# Altium footprint library CommonFPs.PcbLib: 38 footprints (part 3 of 3)
Each footprint in its own frame and in the unit in brackets; x right, y up, seen from the top. Pads: shape width x height; smd on the part's side, far side on the other; paste and mask are expansions set on the pad; w line width, h text height; cw(c..) or ccw(c..) is an arc to the next point about the centre after c.
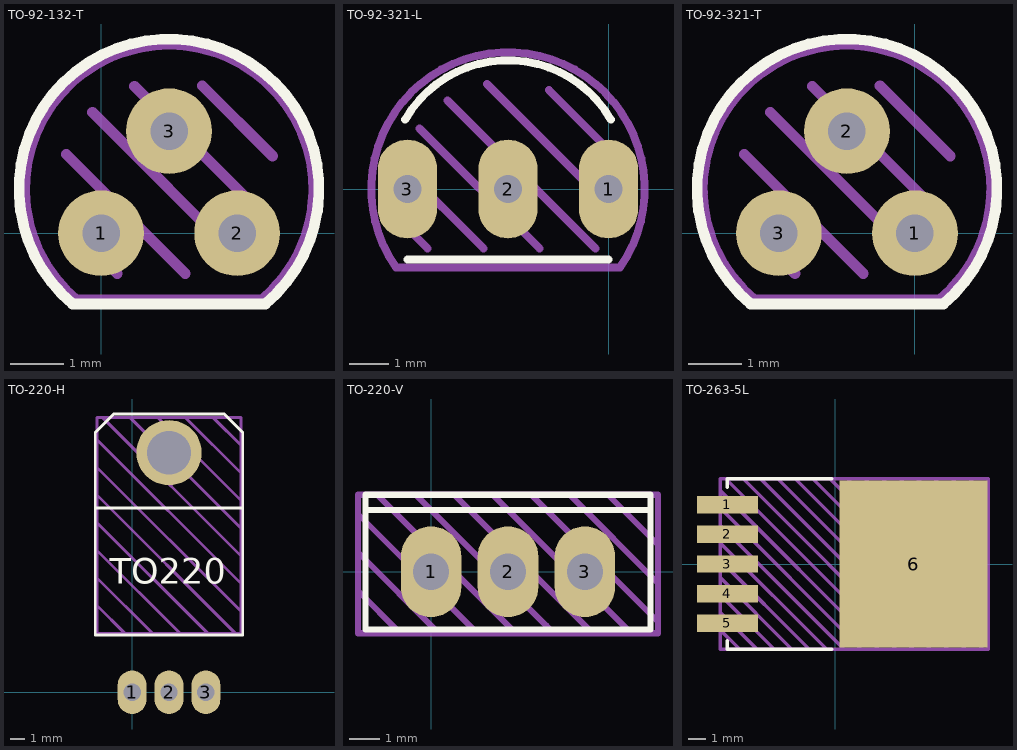
[diagram p2: the footprints below, top view; thin cyan lines are the x and y axes]

## TO-92-132-T [mm]
pads (3):
  round 1.6 hole 0.7: 1(0,0) 2(2.54,0) 3(1.27,1.905)
Top Overlay:
  lines w0.2: -0.531,-1.319 cw(c1.269,0.826) 3.068,-1.319 -0.531,-1.319
Top Draw:
  lines w0.2: -0.657,0.209 0.301,-0.75 ; -0.648,1.472 1.574,-0.75 ; -0.161,2.257 2.703,-0.606 ; 0.625,2.745 3.19,0.179 ; 1.888,2.754 3.2,1.442 ; -0.464,-1.243 cw(c1.271,0.826) 3.007,-1.243 -0.464,-1.243
Top Info:
  text "'.Comment'" at -1.905,-2.54 h0.75
3D body: height 2.16, standoff -0.13, extent -0.3,-0.27 0.3,1.246
3D body: height 2.3, standoff 1.7, extent 2.239,0.666 2.839,1.266
3D body: height 2.3, standoff 1.7, extent -0.299,0.665 0.301,1.265
3D body: height 3, standoff 2, extent 0.97,0.665 1.57,1.265
3D body: height 3, standoff 2, extent 2.239,0.666 2.839,1.266
3D body: height 3, standoff 2, extent -0.299,0.665 0.301,1.265
3D body: height 0, standoff -1.78, extent 0.969,1.605 1.569,2.205
3D body: height 0.3, standoff -0.3, extent 0.969,1.605 1.569,2.205
3D body: height 2.3, standoff 1.7, extent 0.97,0.665 1.57,1.265
3D body: height 0.3, standoff -0.3, extent 2.24,-0.3 2.84,0.3
3D body: height 0, standoff -1.78, extent 2.24,-0.3 2.84,0.3
3D body: height 0.3, standoff -0.3, extent -0.3,-0.3 0.3,0.3
3D body: height 0, standoff -1.78, extent -0.3,-0.3 0.3,0.3
3D body: height 2.16, standoff -0.13, extent 2.24,-0.27 2.84,1.246
3D body: height 2.17, standoff -0.13, extent 0.969,0.682 1.569,2.177
3D body: height 7, standoff 3, extent -1.25,-0.787 1.271,3.632
3D body: height 7, standoff 3, extent 1.268,-0.787 3.79,3.632

## TO-92-321-L [mm]
pads (3):
  oval 1.5x2.5 hole 0.7: 1(0,0) 2(-2.54,0) 3(-5.08,0)
Top Overlay:
  lines w0.2: -5.138,1.754 cw(c-2.54,0.254) 0.058,1.754 ; -5.08,-1.778 0,-1.778
Top Draw:
  lines w0.2: -5.192,0.531 -3.161,-1.5 ; -5.038,-1.038 -4.576,-1.5 ; -4.773,1.526 -1.747,-1.5 ; -4.066,2.233 -0.331,-1.501 ; -3.071,2.652 0.112,-0.531 ; -1.502,2.498 -0.042,1.038 ; -5.37,-1.982 cw(c-2.54,0) 0.29,-1.982 -5.37,-1.982
Top Info:
  text "'.Comment'" at -5.715,-3.175 h0.75
3D body: height 7, standoff 3, extent -2.54,-1.422 -0.019,2.997
3D body: height 7, standoff 3, extent -5.058,-1.422 -2.537,2.997
3D body: height 2.18, standoff -0.16, extent -1.525,-0.3 0.285,0.3
3D body: height 2.3, standoff 1.7, extent -4.109,-0.3 -3.509,0.3
3D body: height 2.3, standoff 1.7, extent -1.57,-0.3 -0.97,0.3
3D body: height 0, standoff -1.78, extent -5.379,-0.3 -4.779,0.3
3D body: height 0, standoff -1.78, extent -0.299,-0.3 0.301,0.3
3D body: height 5.22, standoff -1.78, extent -2.839,-0.3 -2.239,0.3
3D body: height 0.3, standoff -0.3, extent -5.379,-0.3 -4.779,0.3
3D body: height 0.3, standoff -0.3, extent -0.299,-0.3 0.301,0.3
3D body: height 3, standoff 2, extent -4.109,-0.3 -3.509,0.3
3D body: height 3, standoff 2, extent -1.57,-0.3 -0.97,0.3
3D body: height 2.18, standoff -0.16, extent -5.365,-0.3 -3.555,0.3

## TO-92-321-T [mm]
pads (3):
  round 1.6 hole 0.7: 1(0,0) 2(-1.27,1.905) 3(-2.54,0)
Top Overlay:
  lines w0.2: -3.068,-1.319 cw(c-1.269,0.826) 0.531,-1.319 -3.068,-1.319
Top Draw:
  lines w0.2: -3.197,0.209 -2.239,-0.75 ; -3.188,1.472 -0.966,-0.75 ; -2.701,2.257 0.163,-0.606 ; -1.915,2.745 0.65,0.179 ; -0.652,2.754 0.66,1.442 ; -3.004,-1.243 cw(c-1.269,0.826) 0.467,-1.243 -3.004,-1.243
Top Info:
  text "'.Comment'" at -4.445,-2.54 h0.75
3D body: height 2.16, standoff -0.13, extent -0.3,-0.27 0.3,1.246
3D body: height 2.3, standoff 1.7, extent -2.839,0.666 -2.239,1.266
3D body: height 2.3, standoff 1.7, extent -0.301,0.665 0.299,1.265
3D body: height 3, standoff 2, extent -1.57,0.665 -0.97,1.265
3D body: height 3, standoff 2, extent -2.839,0.666 -2.239,1.266
3D body: height 3, standoff 2, extent -0.301,0.665 0.299,1.265
3D body: height 0, standoff -1.78, extent -1.569,1.605 -0.969,2.205
3D body: height 0.3, standoff -0.3, extent -1.569,1.605 -0.969,2.205
3D body: height 2.3, standoff 1.7, extent -1.57,0.665 -0.97,1.265
3D body: height 0.3, standoff -0.3, extent -2.84,-0.3 -2.24,0.3
3D body: height 0, standoff -1.78, extent -2.84,-0.3 -2.24,0.3
3D body: height 0.3, standoff -0.3, extent -0.3,-0.3 0.3,0.3
3D body: height 0, standoff -1.78, extent -0.3,-0.3 0.3,0.3
3D body: height 2.16, standoff -0.13, extent -2.84,-0.27 -2.24,1.246
3D body: height 2.17, standoff -0.13, extent -1.569,0.682 -0.969,2.177
3D body: height 7, standoff 3, extent -1.271,-0.787 1.25,3.632
3D body: height 7, standoff 3, extent -3.79,-0.787 -1.268,3.632

## TO-220-H [mm]
pads (4):
  oval 2x3 hole 1.2: 1(0,0) 2(2.54,0) 3(5.08,0)
  round 4.5 hole 3: ""(2.54,16.51)
Top Overlay:
  lines w0.2: -2.54,12.7 7.6,12.7 ; -2.54,3.937 7.62,3.937 7.62,17.907 6.35,19.177 -1.27,19.177 -2.54,17.907 -2.54,3.937
  text "TO220" at -1.555,7.462 h1.75
Top Draw:
  lines w0.2: -2.413,5.969 -0.508,4.064 ; -2.413,7.874 1.397,4.064 ; -2.413,9.779 3.302,4.064 ; -2.413,11.684 5.207,4.064 ; -2.413,13.589 7.112,4.064 ; -2.413,15.494 7.493,5.588 ; -2.413,17.399 7.429,7.556 ; -2.032,18.923 7.493,9.398 ; -0.127,18.923 7.461,11.335 ; 1.778,18.923 7.493,13.208 ; 3.683,18.923 7.493,15.113 ; 5.588,18.923 7.493,17.018 ; -2.413,4.064 7.493,4.064 7.493,18.669 7.493,18.923 -2.413,18.923 -2.413,4.064
Top Info:
  text "'.Comment'" at -2.811,-3.329 h1.25
3D body: height 1.27, standoff 0, extent -2.3,6.3 7.3,18.8
3D body: height 2.2, standoff 1.8, extent -0.762,-0.254 0.762,4
3D body: height 2.2, standoff 1.8, extent 1.778,-0.254 3.302,4
3D body: height 2.2, standoff 1.8, extent 4.318,-0.254 5.842,4
3D body: height 2, standoff -1.78, extent -0.254,-0.254 0.254,0.254
3D body: height 2, standoff -1.78, extent 2.286,-0.254 2.794,0.254
3D body: height 3, standoff 0.01, extent -2.6,3.999 7.6,12.7
3D body: height 2, standoff -1.78, extent 4.826,-0.254 5.334,0.254

## TO-220-V [mm]
pads (3):
  oval 2x3 hole 1.2: 1(0,0) 2(2.54,0) 3(5.08,0)
Top Overlay:
  lines w0.2: -2.159,2.032 0,2.032 5.08,2.032 7.239,2.032 ; -2.159,-1.905 0,-1.905 5.08,-1.905 7.239,-1.905 7.239,2.54 -2.159,2.54 -2.159,0.921 -2.159,-1.048 -2.159,-1.905
Top Draw:
  lines w0.2: -2.413,-0.635 -1.016,-2.032 0.254,-2.032 -2.413,0.635 ; -2.413,1.778 -2.413,2.54 -2.286,2.54 0,2.54 ; -2.413,1.905 1.524,-2.032 2.794,-2.032 -1.778,2.54 ; -2.413,2.032 -2.413,1.016 -2.413,-1.016 -2.413,-2.032 7.493,-2.032 7.493,2.54 5.08,2.54 ; -1.27,2.54 0,2.54 ; -0.508,2.54 3.81,-1.778 4.064,-2.032 ; 0.508,2.54 0.762,2.54 5.334,-2.032 ; 1.27,2.54 2.54,2.54 ; 2.032,2.54 6.604,-2.032 ; 3.302,2.54 7.493,-1.651 ; 3.81,2.54 5.08,2.54 ; 4.572,2.54 7.493,-0.381 7.493,0.889 5.842,2.54 ; 0,2.54 5.08,2.54
Top Info:
  text "'.Comment'" at -1.749,-3.483 h1
3D body: height 13, standoff 3.9, extent -2.575,-0.819 7.625,2.237
3D body: height 4, standoff 0.49, extent 4.445,-0.381 5.715,0.381
3D body: height 4, standoff 0.49, extent 1.905,-0.381 3.175,0.381
3D body: height 0.5, standoff -3, extent 4.699,-0.254 5.461,0.254
3D body: height 0.5, standoff -3, extent 2.159,-0.254 2.921,0.254
3D body: height 0.5, standoff -3, extent -0.381,-0.254 0.381,0.254
3D body: height 4, standoff 0.49, extent -0.635,-0.381 0.635,0.381
3D body: height 18.75, standoff 6.25, extent -2.275,0.989 7.325,2.259

## TO-263-5L [mm]
pads (6):
  rect 3.5x1 smd: 1(-6.2,3.4) 2(-6.2,1.7) 3(-6.2,0) 4(-6.2,-1.7) 5(-6.2,-3.4)
  rect 8.5x9.6 smd: 6(4.5,0)
Top Overlay:
  lines w0.2: -6.2,-4.4 -6.2,-4.9 -0.2,-4.9 ; -6.2,4.4 -6.2,4.9 -0.2,4.9
Top Draw:
  lines w0.2: -6.6,-3.8 -5.5,-4.9 ; -6.6,-2.8 -4.5,-4.9 ; -6.6,-1.8 -3.5,-4.9 ; -6.6,-0.8 -2.5,-4.9 ; -6.6,0.2 -1.5,-4.9 ; -6.6,1.2 -0.5,-4.9 ; -6.6,2.2 0.5,-4.9 ; -6.6,3.2 1.5,-4.9 ; -6.6,4.2 2.5,-4.9 ; -6.3,4.9 3.5,-4.9 ; -5.3,4.9 4.5,-4.9 ; -4.3,4.9 5.5,-4.9 ; -3.3,4.9 6.5,-4.9 ; -2.3,4.9 7.5,-4.9 ; -1.3,4.9 8.5,-4.9 ; -0.3,4.9 8.8,-4.2 ; 0.7,4.9 8.8,-3.2 ; 1.7,4.9 8.8,-2.2 ; 2.7,4.9 8.8,-1.2 ; 3.7,4.9 8.8,-0.2 ; 4.7,4.9 8.8,0.8 ; 5.7,4.9 8.8,1.8 ; 6.7,4.9 8.8,2.8 ; 7.7,4.9 8.8,3.8 ; -6.6,-4.9 -6.6,4.9 8.8,4.9 8.8,-4.9 -6.6,-4.9
Top Info:
  text "'.Comment'" at -5.561,-6.979 h1.25
3D body "TO263-5.stp": height 4.22, standoff 0, extent -6.561,-4.911 8.041,4.911